# Altium footprint library Passives.PcbLib: 8 footprints
Each footprint in its own frame and in the unit in brackets; x right, y up, seen from the top. Pads: shape width x height; smd on the part's side, far side on the other; paste and mask are expansions set on the pad; w line width, h text height; cw(c..) or ccw(c..) is an arc to the next point about the centre after c.
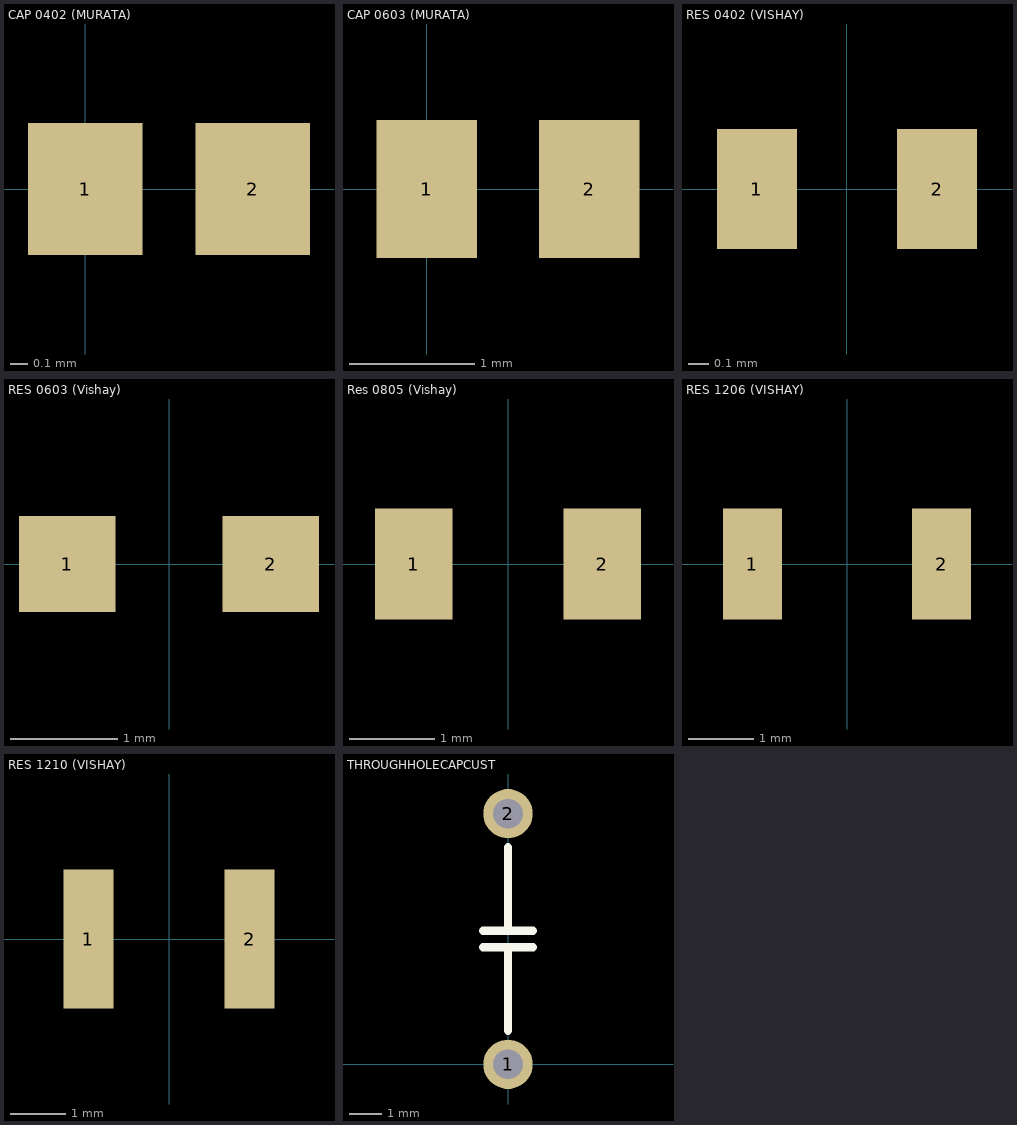
[diagram p0: the footprints below, top view; thin cyan lines are the x and y axes]

## CAP 0402 (MURATA) [mm]
pads (2):
  rect 0.65x0.75 smd: 1(0,0) 2(0.95,0)
3D body: height 0.55, standoff 0, extent -0.075,-0.275 0.975,0.275

## CAP 0603 (MURATA) [mm]
pads (2):
  rect 0.8x1.1 smd: 1(0,0) 2(1.3,0)
3D body: height 0.9, standoff 0, extent -0.2,-0.45 1.5,0.45

## RES 0402 (VISHAY) [mm]
pads (2):
  rect 0.4x0.6 smd: 1(-0.45,0) 2(0.45,0)
3D body: height 0.4, standoff 0, extent -0.5,-0.25 0.5,0.25

## RES 0603 (Vishay) [mm]
pads (2):
  rect 0.9x0.9 smd: 1(-0.95,0) 2(0.95,0)
3D body: height 0.55, standoff 0, extent -0.85,-0.475 0.85,0.475

## Res 0805 (Vishay) [mm]
pads (2):
  rect 0.9x1.3 smd: 1(-1.1,0) 2(1.1,0)
3D body: height 0.55, standoff 0, extent -1.075,-0.7 1.075,0.7

## RES 1206 (VISHAY) [mm]
pads (2):
  rect 0.9x1.7 smd: 1(-1.45,0) 2(1.45,0)
3D body: height 0.65, standoff 0, extent -1.675,-0.875 1.675,0.875

## RES 1210 (VISHAY) [mm]
pads (2):
  rect 0.9x2.5 smd: 1(-1.45,0) 2(1.45,0)
3D body: height 0.75, standoff 0, extent -1.675,-1.3 1.675,1.3

## THROUGHHOLECAPCUST [mm]
pads (2):
  round 1.5 hole 0.9: 1(0,0) 2(0,7.62)
Top Overlay:
  lines w0.254: -0.762,3.556 0.762,3.556 ; -0.762,4.064 0.762,4.064 ; 0,1.016 0,3.556 ; 0,4.064 0,6.604